# Altium schematic symbol library ESP32 S2 Mini.SchLib: 1 symbol
Pins are listed as number, name and electrical type; pins without a type are passive.

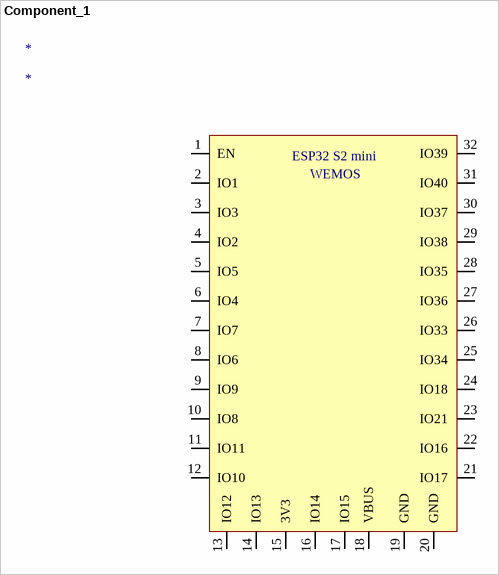
[diagram p0: symbol Component_1]

## Component_1
designator *
footprint WEMOS ESP32 S2 Mini
pins: 1 EN, 2 IO1, 3 IO3, 4 IO2, 5 IO5, 6 IO4, 7 IO7, 8 IO6, 9 IO9, 10 IO8, 11 IO11, 12 IO10, 13 IO12, 14 IO13, 15 3V3, 16 IO14, 17 IO15, 18 VBUS, 19 GND, 20 GND, 21 IO17, 22 IO16, 23 IO21, 24 IO18, 25 IO34, 26 IO33, 27 IO36, 28 IO35, 29 IO38, 30 IO37, 31 IO40, 32 IO39
text: ESP32 S2 mini; WEMOS